# Altium footprint library TAOGLAS_GP.1575.18.4.A.02.PcbLib: 1 footprints
Each footprint in its own frame and in the unit in brackets; x right, y up, seen from the top. Pads: shape width x height; smd on the part's side, far side on the other; paste and mask are expansions set on the pad; w line width, h text height; cw(c..) or ccw(c..) is an arc to the next point about the centre after c.
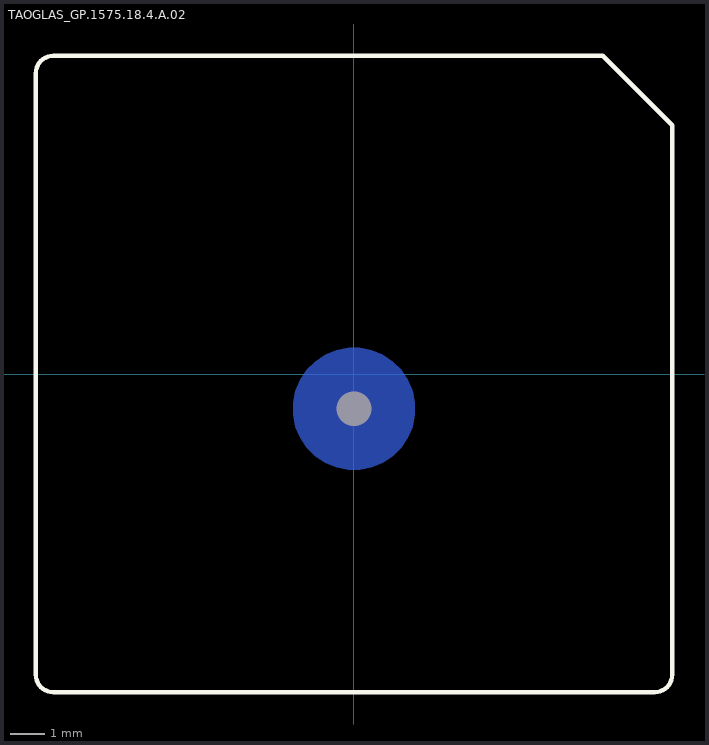
[diagram p0: the footprint, top view; thin cyan lines are the x and y axes]

## TAOGLAS_GP.1575.18.4.A.02 [mm] "1575.42MHz Patch Antenna (18mmx18mmx4.0mm)"
height 4.2
pads (1):
  round 0 / inner round 0 / far side round 2.54 hole 1 unplated: 1(0,-1)
Bottom Layer:
  pour cut-out: 0,-2.75 0.172,-2.75 0.51,-2.683 0.829,-2.551 1.116,-2.359 1.359,-2.116 1.551,-1.829 1.683,-1.51 1.75,-1.172 1.75,-1 1.75,-0.828 1.683,-0.49 1.551,-0.171 1.359,0.116 1.116,0.359 0.829,0.551 0.51,0.683 0.172,0.75 0,0.75 -0.172,0.75 -0.51,0.683 -0.829,0.551 -1.116,0.359 -1.359,0.116 -1.551,-0.171 -1.683,-0.49 -1.75,-0.828 -1.75,-1 -1.75,-1.172 -1.683,-1.51 -1.551,-1.829 -1.359,-2.116 -1.116,-2.359 -0.829,-2.551 -0.51,-2.683 -0.172,-2.75
Top Overlay:
  lines w0.127: -9.15,-8.65 ccw(c-8.65,-8.65) -8.65,-9.15 8.65,-9.15 ccw(c8.65,-8.65) 9.15,-8.65 9.15,7.15 7.15,9.15 -8.65,9.15 ccw(c-8.65,8.65) -9.15,8.65 -9.15,-8.65
Top Solder:
  region: 0,-1.686 -0.068,-1.686 -0.2,-1.659 -0.325,-1.608 -0.437,-1.533 -0.533,-1.437 -0.608,-1.325 -0.659,-1.2 -0.686,-1.068 -0.686,-1 -0.686,-0.932 -0.659,-0.8 -0.608,-0.675 -0.533,-0.563 -0.437,-0.467 -0.325,-0.392 -0.2,-0.341 -0.068,-0.314 0,-0.314 0.068,-0.314 0.2,-0.341 0.325,-0.392 0.437,-0.467 0.533,-0.563 0.608,-0.675 0.659,-0.8 0.686,-0.932 0.686,-1 0.686,-1.068 0.659,-1.2 0.608,-1.325 0.533,-1.437 0.437,-1.533 0.325,-1.608 0.2,-1.659 0.068,-1.686
Application Notes:
  text "FEED" at 2.032,-0.762 h1
  text "Please see datasheet for further information" at -9.398,-11.176 h0.45
  text "CENTER ANTENNA IN 50mm x 50mm GND PLANE" at 9.525,8.89 h0.45
  text "CENTER ANTENNA IN 50mm x 50mm GND PLANE" at -9.652,-8.636 h0.45
  text "CENTER ANTENNA IN 50mm x 50mm GND PLANE" at -8.636,-10.033 h0.45
  text "CENTER ANTENNA IN 50mm x 50mm GND PLANE" at -8.636,9.652 h0.45
Mechanical 15:
  circle w0.051: c0,-1 r0.475
  lines w0.102: -9.15,-8.65 ccw(c-8.65,-8.65) -8.65,-9.15 8.65,-9.15 ccw(c8.65,-8.65) 9.15,-8.65 9.15,7.15 7.15,9.15 -8.65,9.15 ccw(c-8.65,8.65) -9.15,8.65 -9.15,-8.65
  text ".Designator" at -0.75,1 h1.52
Multi-Layer:
  pour cut-out: -1.5,-1 -1.5,-1.148 -1.442,-1.438 -1.329,-1.711 -1.165,-1.956 -0.956,-2.165 -0.711,-2.329 -0.438,-2.442 -0.148,-2.5 0,-2.5 0.148,-2.5 0.438,-2.442 0.711,-2.329 0.956,-2.165 1.165,-1.956 1.329,-1.711 1.442,-1.438 1.5,-1.148 1.5,-1 1.5,-0.852 1.442,-0.562 1.329,-0.289 1.165,-0.044 0.956,0.165 0.711,0.329 0.438,0.442 0.148,0.5 0,0.5 -0.148,0.5 -0.438,0.442 -0.711,0.329 -0.956,0.165 -1.165,-0.044 -1.329,-0.289 -1.442,-0.562 -1.5,-0.852
3D body: height 0, standoff -1.67, extent -0.446,-1.449 0.45,-0.551
3D body "GP.1575.18.4.A.02 v3.step": height 4.51, standoff 0, extent -9,-9 9,9